# EAGLE library part INVERTER (library ERIC)
Dual NOT gate
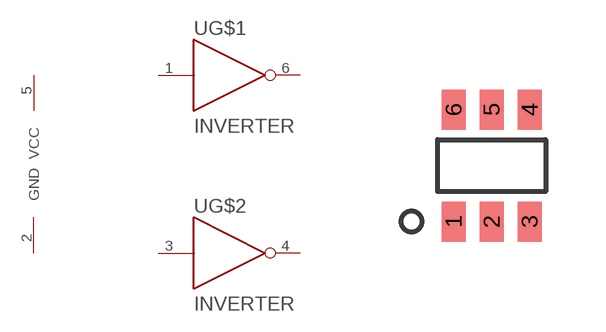
[diagram p23: symbol with the pads of SOT-23-6; footprint SOT-23-6]

Designator prefix -; gates G$1=INVERTER G$2=INVERTER G$3=POWER_PINS

## INVERTERSN74LVC2GU04  [SOT-23-6]
1  G$1:A  in
2  G$3:GND  pwr
3  G$2:A  in
4  G$2:Y  out
5  G$3:VCC  pwr
6  G$1:Y  out

## Footprint SOT-23-6 (pad centres in mm)
6-Lead Plastic Small Outline Transistor (OT) [SOT-23] from Microchip Page 64
smd 0.6 x 1: 1 -0.95,-1.4; 2 0,-1.4; 3 0.95,-1.4; 4 0.95,1.4; 5 0,1.4; 6 -0.95,1.4